# EAGLE library part TMS320F28027DAS (library Robot_Arm)
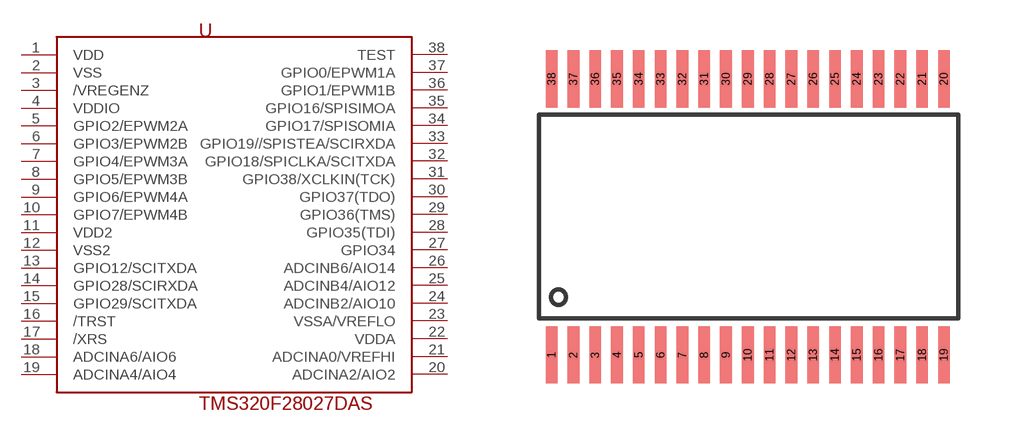
[diagram p3: symbol with the pads of DA38; footprint DA38]

Designator prefix U

## TMS320F28027DAS  [DA38]
1  VDD
2  VSS
3  /VREGENZ
4  VDDIO
5  GPIO2/EPWM2A
6  GPIO3/EPWM2B
7  GPIO4/EPWM3A
8  GPIO5/EPWM3B
9  GPIO6/EPWM4A
10  GPIO7/EPWM4B
11  VDD2
12  VSS2
13  GPIO12/SCITXDA
14  GPIO28/SCIRXDA
15  GPIO29/SCITXDA
16  /TRST
17  /XRS
18  ADCINA6/AIO6
19  ADCINA4/AIO4
20  ADCINA2/AIO2
21  ADCINA0/VREFHI
22  VDDA
23  VSSA/VREFLO
24  ADCINB2/AIO10
25  ADCINB4/AIO12
26  ADCINB6/AIO14
27  GPIO34
28  GPIO35(TDI)
29  GPIO36(TMS)
30  GPIO37(TDO)
31  GPIO38/XCLKIN(TCK)
32  GPIO18/SPICLKA/SCITXDA
33  GPIO19//SPISTEA/SCIRXDA
34  GPIO17/SPISOMIA
35  GPIO16/SPISIMOA
36  GPIO1/EPWM1B
37  GPIO0/EPWM1A
38  TEST

## Footprint DA38 (pad centres in mm)
smd 0.35 x 1.705: 1 -5.85,-4.12; 2 -5.2,-4.12; 3 -4.55,-4.12; 4 -3.9,-4.12; 5 -3.25,-4.12; 6 -2.6,-4.12; 7 -1.95,-4.12; 8 -1.3,-4.12; 9 -0.65,-4.12; 10 0,-4.12; 11 0.65,-4.12; 12 1.3,-4.12; 13 1.95,-4.12; 14 2.6,-4.12; 15 3.25,-4.12; 16 3.9,-4.12; 17 4.55,-4.12; 18 5.2,-4.12; 19 5.85,-4.12; 20 5.85,4.12; 21 5.2,4.12; 22 4.55,4.12; 23 3.9,4.12; 24 3.25,4.12; 25 2.6,4.12; 26 1.95,4.12; 27 1.3,4.12; 28 0.65,4.12; 29 0,4.12; 30 -0.65,4.12; 31 -1.3,4.12; 32 -1.95,4.12; 33 -2.6,4.12; 34 -3.25,4.12; 35 -3.9,4.12; 36 -4.55,4.12; 37 -5.2,4.12; 38 -5.85,4.12